# Altium integrated library USB-AM-S-X-X-SM1.IntLib: 1 symbol
Pins are listed as number, name and electrical type; pins without a type are passive.

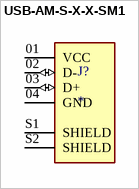
[diagram p0: symbol USB-AM-S-X-X-SM1]

## USB-AM-S-X-X-SM1
designator J?
MF: Samtec; MP: USB-AM-S-X-X-SM1; Value: *; Price: None; Package: None; Availability: Unavailable
footprint SAMTEC_USB-AM-S-X-X-SM1
pins: 01 VCC (power), 02 D- (io), 03 D+ (io), 04 GND (power), S1 SHIELD, S2 SHIELD